# Altium schematic symbol library ADS1675IPAG.SchLib: 1 symbol
Pins are listed as number, name and electrical type; pins without a type are passive.

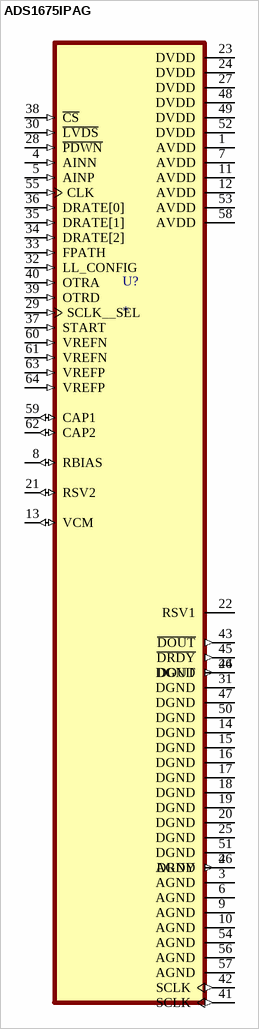
[diagram p0: symbol ADS1675IPAG]

## ADS1675IPAG
designator U?
4MSPS, 24-Bit Analog-to-Digital Converter; MP: ADS1675IPAG; MF: Texas Instruments; SnapEDA_Link: https://www.snapeda.com/parts/ADS1675IPAG/Texas+Instruments/view-part/?ref=snap; Package: TQFP-64 Texas Instruments; Check_prices: https://www.snapeda.com/parts/ADS1675IPAG/Texas+Instruments/view-part/?ref=eda; Purchase-URL: https://pricing.snapeda.com/search/part/ADS1675IPAG/?ref=eda; Price: None; Value: *; Availability: In Stock
footprint QFP50P1200X1200X120-64N
pins: 1 AVDD (power), 2 AGND (power), 3 AGND (power), 4 AINN (in), 5 AINP (in), 6 AGND (power), 7 AVDD (power), 8 RBIAS (io), 9 AGND (power), 10 AGND (power), 11 AVDD (power), 12 AVDD (power), 13 VCM (io), 14 DGND (power), 15 DGND (power), 16 DGND (power), 17 DGND (power), 18 DGND (power), 19 DGND (power), 20 DGND (power), 21 RSV2 (io), 22 RSV1 (power), 23 DVDD (power), 24 DVDD (power), 25 DGND (power), 26 DGND (power), 27 DVDD (power), 28 ~{PDWN} (in), 29 SCLK__SEL (in), 30 ~{LVDS} (in), 31 DGND (power), 32 LL_CONFIG (in), 33 FPATH (in), 34 DRATE[2] (in), 35 DRATE[1] (in), 36 DRATE[0] (in), 37 START (in), 38 ~{CS} (in), 39 OTRD (in), 40 OTRA (in), 41 SCLK (out), 42 SCLK (out), 43 ~{DOUT} (out), 44 DOUT (out), 45 ~{DRDY} (out), 46 DRDY (out), 47 DGND (power), 48 DVDD (power), 49 DVDD (power), 50 DGND (power), 51 DGND (power), 52 DVDD (power), 53 AVDD (power), 54 AGND (power), 55 CLK (in), 56 AGND (power), 57 AGND (power), 58 AVDD (power), 59 CAP1 (io), 60 VREFN (in), 61 VREFN (in), 62 CAP2 (io), 63 VREFP (in), 64 VREFP (in)